# Altium footprint library Header_ISP_6P_SMD_1.PcbLib: 1 footprints
Each footprint in its own frame and in the unit in brackets; x right, y up, seen from the top. Pads: shape width x height; smd on the part's side, far side on the other; paste and mask are expansions set on the pad; w line width, h text height; cw(c..) or ccw(c..) is an arc to the next point about the centre after c.
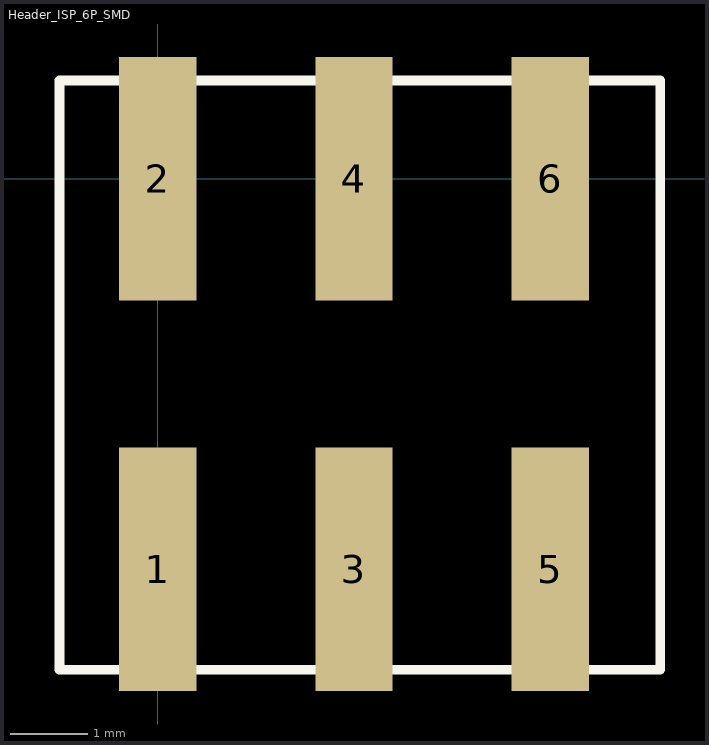
[diagram p0: the footprint, top view; thin cyan lines are the x and y axes]

## Header_ISP_6P_SMD [mm]
pads (6):
  rect 1x3.15 smd: 1(0,-5.05) 2(0,0) 3(2.54,-5.05) 4(2.54,0) 5(5.08,-5.05) 6(5.08,0)
Top Overlay:
  lines w0.127: -1.27,-6.35 -1.27,1.27 3.81,1.27 6.5,1.27 6.5,-6.35 3.81,-6.35 -1.27,-6.35